# Altium schematic symbol library RX0032.SchLib: 1 symbol
Pins are listed as number, name and electrical type; pins without a type are passive.

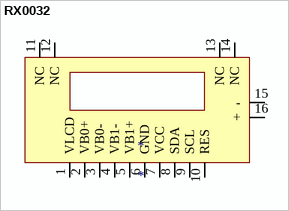
[diagram p0: symbol RX0032]

## RX0032
designator *
pins: 1 VLCD, 2 VB0+, 3 VB0-, 4 VB1-, 5 VB1+, 6 GND, 7 VCC, 8 SDA, 9 SCL, 10 RES, 11 NC, 12 NC, 13 NC, 14 NC, 15 -, 16 +